# EAGLE library part 615016245421 (library WE_Stecker)
WR-MJ Horizontal Shielded Dual Stacked Port with LED & EMI Panel Finger 8P8C M. Jack Tab Up & Down, 16 Pins=>Code : Con_I-O_MJ-H_Shielded_Up-Down_615016245421 <http://katalog.we-online.de/media/images/eican/Con_I-O_MJ-H_Shielded_Up-Down_615016245421_pf2.jpg> Details see: http://katalog.we-online.de/en/em/MJ_HORIZONTAL_SHIELDED_DUAL_STACKED_PORT_W_LED_AND_EMI_FINGER_8P8C_TAB_UP_DOWN Created 2014-07-10, Karrer Zheng 2014 (C) Würth Elektronik
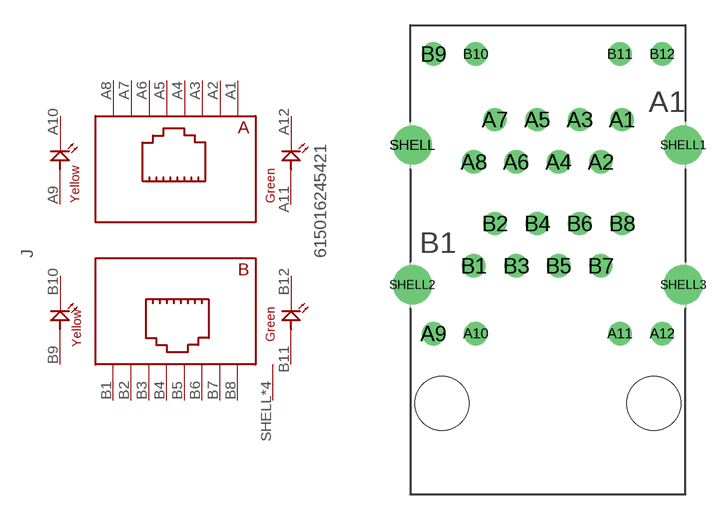
[diagram p127: symbol with the pads of 615016245421; footprint 615016245421]

Designator prefix J

## 615016245421  [615016245421]
A1  A8  pas
A2  A7  pas
A3  A6  pas
A4  A5  pas
A5  A4  pas
A6  A3  pas
A7  A2  pas
A8  A1  pas
A9  A9  pas
A10  A10  pas
A11  A11  pas
A12  A12  pas
B1  B8  pas
B2  B7  pas
B3  B6  pas
B4  B5  pas
B5  B4  pas
B6  B3  pas
B7  B2  pas
B8  B1  pas
B9  B9  pas
B10  B10  pas
B11  B11  pas
B12  B12  pas
SHELL  SHIELD1  pas
SHELL1  SHIELD1  pas
SHELL2  SHIELD1  pas
SHELL3  SHIELD1  pas

## Footprint 615016245421 (pad centres in mm)
WR-MJ Horizontal Shielded Dual Stacked Port with LED & EMI Panel Finger 8P8C M. Jack Tab Up & Down, 16 Pins
drill 0.89: A1 4.445,1.53; A2 3.175,-1.01; A3 1.905,1.53; A4 0.635,-1.01; A5 -0.635,1.53; A6 -1.905,-1.01; A7 -3.175,1.53; A8 -4.445,-1.01; A9 -6.86,-11.3; A10 -4.32,-11.3; A11 4.32,-11.3; A12 6.86,-11.3; B1 -4.445,-7.24; B2 -3.175,-4.7; B3 -1.905,-7.24; B4 -0.635,-4.7; B5 0.635,-7.24; B6 1.905,-4.7; B7 3.175,-7.24; B8 4.445,-4.7; B9 -6.86,5.46; B10 -4.32,5.46; B11 4.32,5.46; B12 6.86,5.46
drill 1.57: SHELL -8.12,0; SHELL1 8.12,0; SHELL2 -8.12,-8.38; SHELL3 8.12,-8.38
hole 3.25 at -6.345,-15.49
hole 3.25 at 6.345,-15.49